# EAGLE library part DC-DC:LM2663(SW-CAP) (library QuantumOptics)
LM2663, switched cap DC-DC converter. Inverter, doubler, supply splitter.
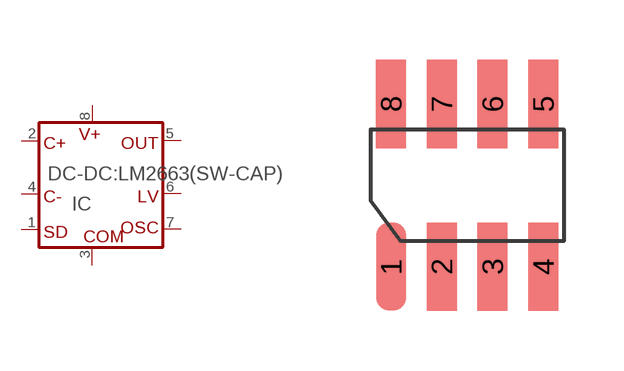
[diagram p11: symbol with the pads of SOIC-8; footprint SOIC-8]

Designator prefix IC

## DC-DC:LM2663(SW-CAP)M  [SOIC-8]
1  SD  in
2  C+  in
3  COM
4  C-  in
5  OUT
6  LV
7  OSC  nc
8  V+

## Footprint SOIC-8 (pad centres in mm)
SOIC-8 (AKA SO-8), pads on 0.050" grid.
smd 0.75 x 2.2: 1 -1.27,-2.032; 2 0,-2.032; 3 1.27,-2.032; 4 2.54,-2.032; 5 2.54,2.032; 6 1.27,2.032; 7 0,2.032; 8 -1.27,2.032